# EAGLE library part AK5720 (library akm)
A/D CONVERTOR 96kHz 24-Bit delta sigma
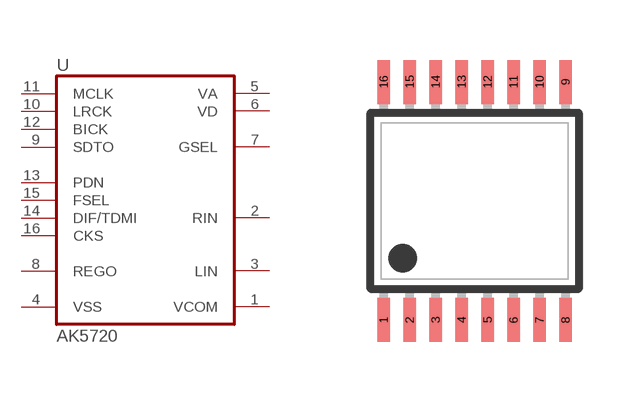
[diagram p29: symbol with the pads of TSSOP16; footprint TSSOP16]

Designator prefix U

## AK5720  [TSSOP16]
1  VCOM
2  RIN
3  LIN
4  VSS
5  VA
6  VD
7  GSEL
8  REGO
9  SDTO
10  LRCK
11  MCLK
12  BICK
13  PDN
14  DIF/TDMI
15  FSEL
16  CKS

## Footprint TSSOP16 (pad centres in mm)
Thin Shrink Small Outline Plastic 16
smd 0.31 x 1.1: 1 -2.275,-2.98; 2 -1.625,-2.98; 3 -0.975,-2.98; 4 -0.325,-2.98; 5 0.325,-2.98; 6 0.975,-2.98; 7 1.625,-2.98; 8 2.275,-2.98; 9 2.275,2.98; 10 1.625,2.98; 11 0.975,2.98; 12 0.325,2.98; 13 -0.325,2.98; 14 -0.975,2.98; 15 -1.625,2.98; 16 -2.275,2.98